# EAGLE library part 7400 (library #PaJa_31)
IO - 2vstup. NAND - 4x
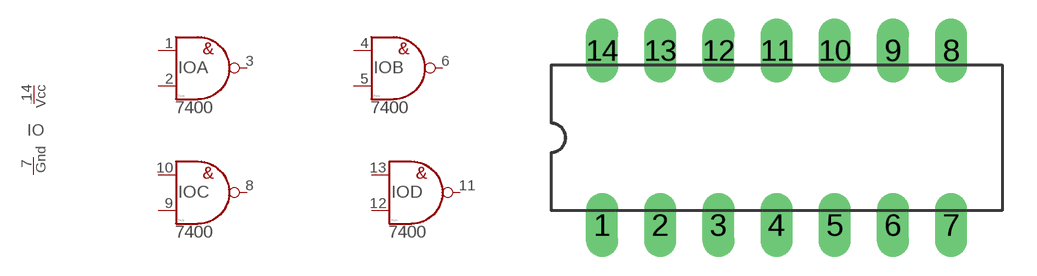
[diagram p3: symbol with the pads of DIL14; footprint DIL14]

Designator prefix IO; gates A=NAND C=NAND D=NAND B=NAND P=POWER

## 7400  [DIL14]
1  A:IN1  in
2  A:IN2  in
3  A:OUT1  out
4  B:IN1  in
5  B:IN2  in
6  B:OUT1  out
7  P:GND  pwr
8  C:OUT1  out
9  C:IN2  in
10  C:IN1  in
11  D:OUT1  out
12  D:IN2  in
13  D:IN1  in
14  P:VCC  pwr

## Footprint DIL14 (pad centres in mm)
drill 0.813 pad 1.4 long: 1 -7.62,-3.81; 2 -5.08,-3.81; 3 -2.54,-3.81; 4 0,-3.81; 5 2.54,-3.81; 6 5.08,-3.81; 7 7.62,-3.81; 8 7.62,3.81; 9 5.08,3.81; 10 2.54,3.81; 11 0,3.81; 12 -2.54,3.81; 13 -5.08,3.81; 14 -7.62,3.81